# Altium footprint library IRFP460PBF.PcbLib: 2 footprints
Each footprint in its own frame and in the unit in brackets; x right, y up, seen from the top. Pads: shape width x height; smd on the part's side, far side on the other; paste and mask are expansions set on the pad; w line width, h text height; cw(c..) or ccw(c..) is an arc to the next point about the centre after c.
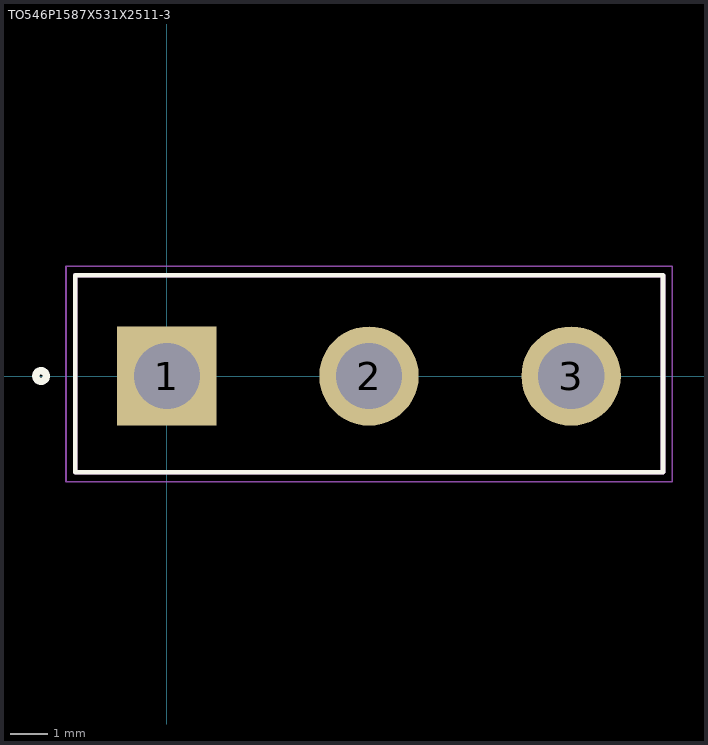
[diagram p0: the footprints below, top view; thin cyan lines are the x and y axes]

## PCBComponent_1 [mm]

## TO546P1587X531X2511-3 [mm]
pads (3):
  rect 2.685x2.685 hole 1.79: 1(0,0)
  round 2.685 hole 1.79: 2(5.46,0) 3(10.92,0)
Top Overlay:
  circle w0.2: c-3.4,0 r0.141
  lines w0.127: -2.48,-2.6 -2.48,2.72 13.4,2.72 13.4,-2.6 -2.48,-2.6
Mechanical 4:
  lines w0.127: -2.48,-2.6 -2.48,2.72 ; -2.48,-2.6 13.4,-2.6 ; -2.48,-2.6 -2.48,2.72 ; -2.48,-2.6 13.4,-2.6 ; -2.48,2.72 13.4,2.72 ; -2.48,2.72 13.4,2.72 ; 13.4,-2.6 13.4,2.72 ; 13.4,-2.6 13.4,2.72
Mechanical 16:
  lines w0.05: -2.73,-2.855 -2.73,2.965 13.65,2.965 13.65,-2.855 -2.73,-2.855